# Altium integrated library TI Power Management Power Over Ethernet.IntLib: 76 symbols (part 4 of 9)
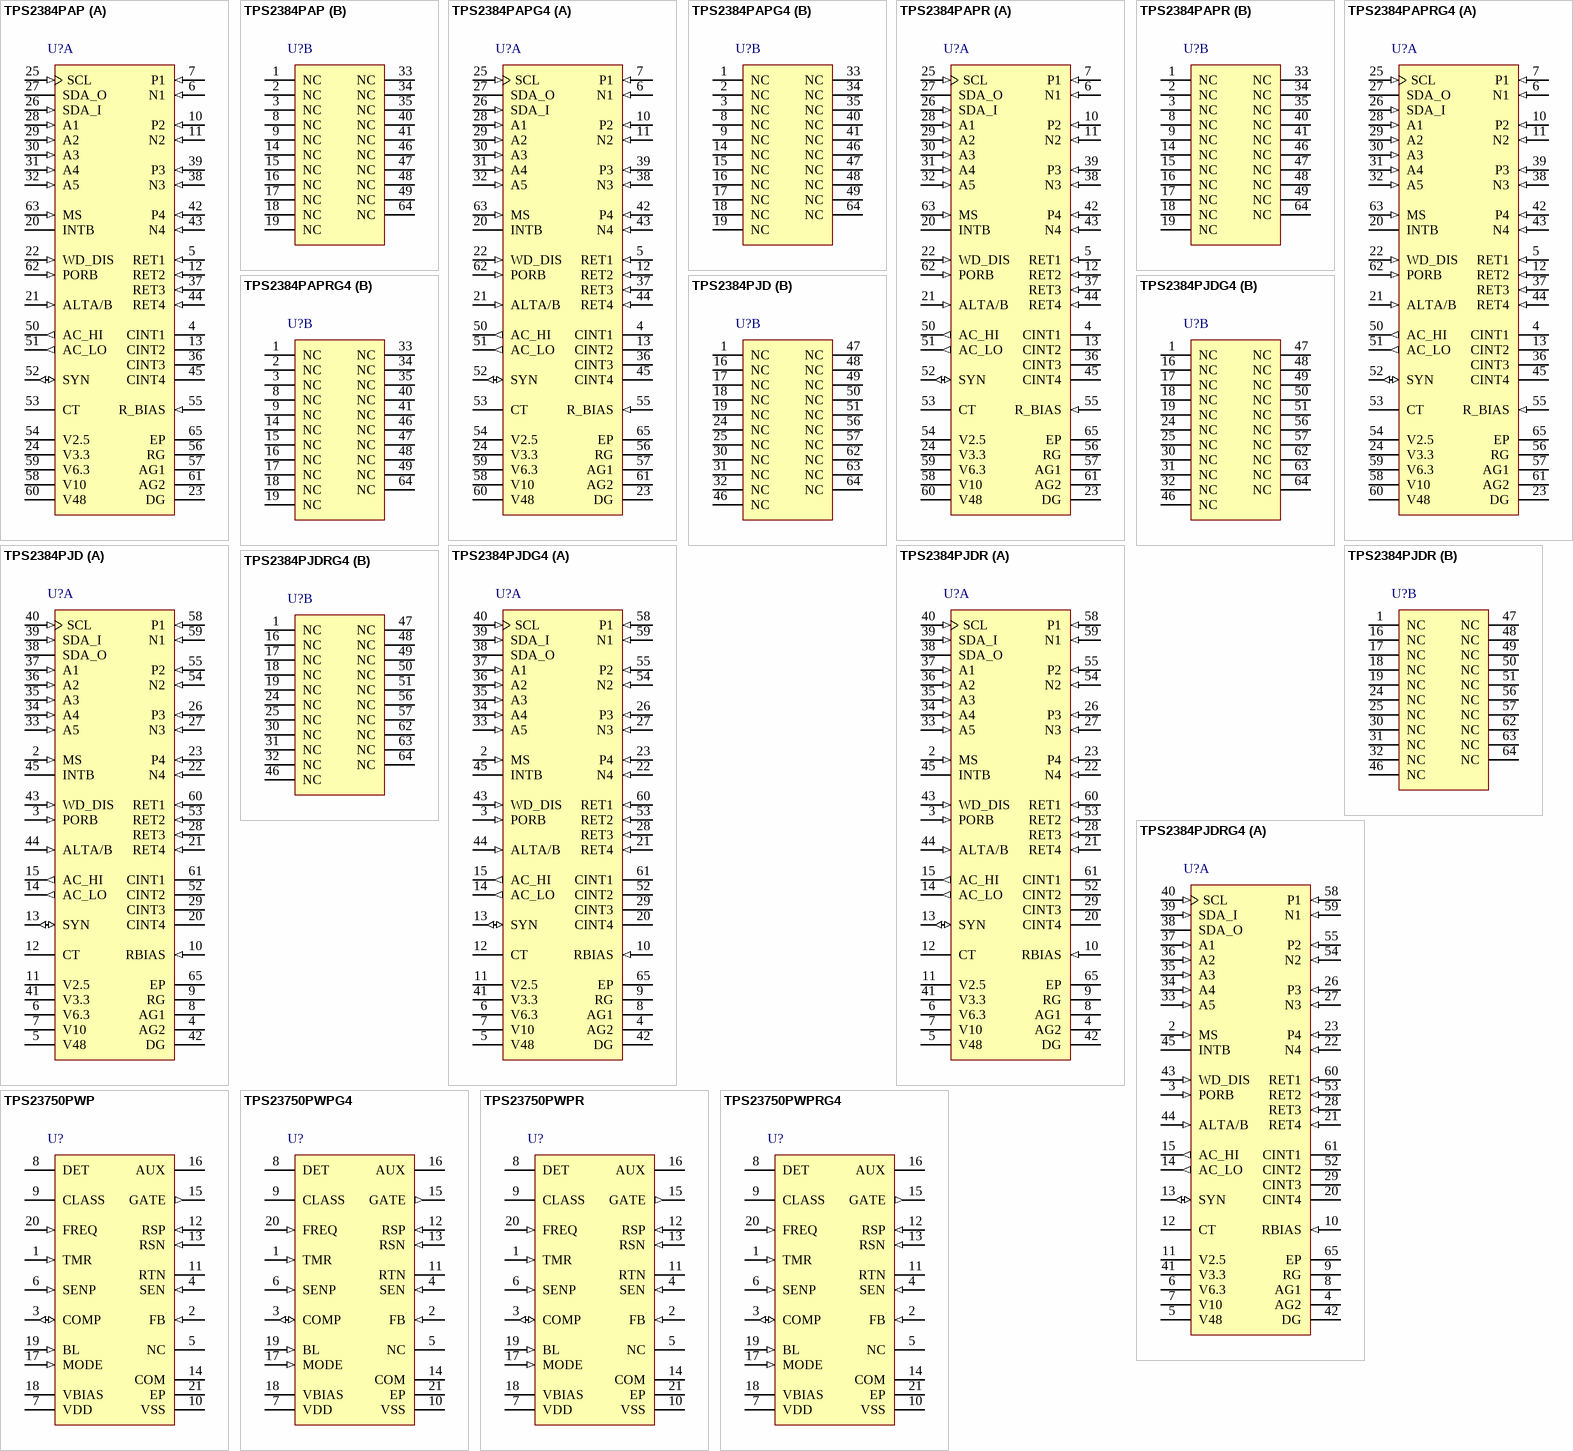
[diagram p6: symbols TPS2384PAP to TPS23750PWPRG4]

## TPS2384PJDG4
designator U?
Quad Ethernet Power Sourcing Equipment Power Manager, -40 to 125 degC, 64-pin QFP (PJD64), Green (RoHS & no Sb/Br); Manufacturer: Texas Instruments; PartNumber: TPS2384PJDG4; Integrated FET: TRUE; No. of Outputs: 4; DatasheetVersion: SLUS634D; PackageVersion: 4147703/E; PackageReference: PJD64-5920X5920TP; PackageDescription: 64-Pin Power Pad Plastic Quad Flatpack (Die Down), Body 10 x 10 mm, Pitch 0.50 mm; Supplier 1: Digi-Key; Supplier Part Number 1: TPS2384PJDG4-ND; Supplier 2: Mouser; Supplier Part Number 2: 595-TPS2384PJDG4; Eco-Plan: Green (RoHS & no Sb/Br); SubFamily: Power Sourcing Equipment; Mounting Technology: Surface Mount; Code_JEDEC: MS-026; ComponentLink1Description: Manufacturer URL; ComponentLink1URL: http://www.ti.com/; ComponentLink2Description: Datasheet; ComponentLink2URL: http://www.ti.com/general/docs/lit/getliterature.tsp?genericPartNumber=TPS2384&fileType=pdf; ComponentLink3Description: Package Specification; ComponentLink3URL: http://www.ti.com/litv/pdf/mpqf072d
footprint TI-PJD64-5920X5920TP_N (QFP, 64-Leads, Body 10x10mm, Pitch 0.5mm, Thermal Pad 5.92x5.92mm, IPC Medium Density)
footprint TI-PJD64-5920X5920TP_L (QFP, 64-Leads, Body 10x10mm, Pitch 0.5mm, Thermal Pad 5.92x5.92mm, IPC High Density)
footprint TI-PJD64-5920X5920TP_M (QFP, 64-Leads, Body 10x10mm, Pitch 0.5mm, Thermal Pad 5.92x5.92mm, IPC Low Density)
part A pins: 2 MS (in) "The MS pin selects either the auto mode (MS low) or the power management mode, PMM, (MS high). This pin can be held low for controller-less standalone applications. When MS is low and the POR timing cycle is complete the (See Datasheet)", 3 PORB (in) "This pin can be used to override the internal POR. When held low, the I2C interface, all the state machines, and registers are held in reset. When all internal and external supplies are within specification, and this pin is (See Datasheet)", 4 AG2 (power) "Analog ground 2. This is the analog ground which ties to the substrate and ESD structures of the device. It should be externally tied to the common copper 48-V return plane. AG1 and AG2 must be tied together directly for the (See Datasheet)", 5 V48 (power) "48-V input to the device. This supply can have a range of 44 to 57 V. This pin should be decoupled with a 0.1-uF capacitor from V48 to AG1 placed as close to the device as possible.", 6 V6.3 (power) "6.3-V analog supply. A 0.1-uF de-coupling capacitor should terminate as close to this pin and the AG1 pin as possible. Do not use for an external supply.", 7 V10 (power) "10-V analog supply. The 10-V reference is generated internally and connects to the main internal analog power bus. A 0.1-uF de-coupling capacitor should terminate as close to this node and the AG1 pin as possible. Do not use (See Datasheet)", 8 AG1 (power) "Analog ground 1. This is the analog ground of the V6.3, V10 and V48 power systems. It should be externally tied to the common copper 48-V return plane. This pin should carry the low side of three de-coupling capacitors tied (See Datasheet)", 9 RG (power) "Reference ground. This is a precision sense of the external ground plane. The integration capacitor (CINT) and the biasing resistor (RBIAS pin) should be tied to this ground. This ground should also be used to form a printed (See Datasheet)", 10 RBIAS (in) "Bias set resistor. This resistor sets all precision bias currents within the chip. This pin will regulate to 1.25V (V2.5/2) when a resistor is connected between RBIAS and RG. This voltage and RBIAS generate a current which (See Datasheet)", 11 V2.5 (power) "2.5-V reference supply. The V2.5 is generated internally and connects to the internal reference power bus. This pin should not be tied to any external supplies. A 0.1-uF de-coupling capacitor should terminate as close to (See Datasheet)", 12 CT "This is a dual-purpose pin. When tied to an external capacitor this pin sets the internal clock. When the CT pin is grounded the SYN pin turns from a output to an input (see SYN pin description). The timing capacitor and the (See Datasheet)", 13 SYN (io) "This is a dual purpose pin. When the CT pin is connected to a timing capacitor this output pin is a 0 V to 3.3V pulse of the internal clock which can be used to drive other TPS2384 SYN pins for elimination of a timing (See Datasheet)", 14 AC_LO (out) "Totem-pole output pin for AC Disconnect excitation.", 15 AC_HI (out) "Totem-pole output pin for AC Disconnect excitation.", 20 CINT4 "Integration capacitor This capacitor is used for the ramp A/D converter signal integration. Connect A 0.027-uF capacitor from this pin to RG. To minimize errors use a polycarbonate, poly-polypropylene, polystyrene or teflon (See Datasheet)", 21 RET4 (in) "48 V return pin.", 22 N4 (in) "Port negative. 48-V load return pin. The low side of the load is switched and protected by internal circuitry that limits the current.", 23 P4 (in) "Port Positive. 48-V load sense pin. Terminal voltage is monitored and controlled differentially with respect to each Port N pin. Optionally, if the application warrants, this high-side path can be protected with the use of a (See Datasheet)", 26 P3 (in) "Port Positive. 48-V load sense pin. Terminal voltage is monitored and controlled differentially with respect to each Port N pin. Optionally, if the application warrants, this high-side path can be protected with the use of a (See Datasheet)", 27 N3 (in) "Port negative. 48-V load return pin. The low side of the load is switched and protected by internal circuitry that limits the current.", 28 RET3 (in) "48 V return pin.", 29 CINT3 "Integration capacitor This capacitor is used for the ramp A/D converter signal integration. Connect A 0.027-uF capacitor from this pin to RG. To minimize errors use a polycarbonate, poly-polypropylene, polystyrene or teflon (See Datasheet)", 33 A5 (in) "Address 1 through 5 These are the I2C address select inputs. Select the appropriate binary address on these pins by connecting to chip ground for a logic low or tying to the V3.3 pin for a logic high. Each address line has (See Datasheet)", 34 A4 (in) "Address 1 through 5 These are the I2C address select inputs. Select the appropriate binary address on these pins by connecting to chip ground for a logic low or tying to the V3.3 pin for a logic high. Each address line has (See Datasheet)", 35 A3 (in) "Address 1 through 5 These are the I2C address select inputs. Select the appropriate binary address on these pins by connecting to chip ground for a logic low or tying to the V3.3 pin for a logic high. Each address line has (See Datasheet)", 36 A2 (in) "Address 1 through 5 These are the I2C address select inputs. Select the appropriate binary address on these pins by connecting to chip ground for a logic low or tying to the V3.3 pin for a logic high. Each address line has (See Datasheet)", 37 A1 (in) "Address 1 through 5 These are the I2C address select inputs. Select the appropriate binary address on these pins by connecting to chip ground for a logic low or tying to the V3.3 pin for a logic high. Each address line has (See Datasheet)", 38 SDA_O (oc) "Serial data open drain output for the I2C interface. When tied to the SDA_I pin, this connection becomes the standard bi-directional serial data line (SDA). This is a open drain output that can directly drive opto-coupler.", 39 SDA_I (in) "Serial data input pin for the I2C interface. When tied to the SDA_O pin, this connection becomes the standard bi-directional serial data line (SDA)", 40 SCL (in) "Serial clock input pin for the I2C interface.", 41 V3.3 (power) "3.3-V logic supply. The 3.3-V supply is generated internally and connects to the internal logic power bus. A 0.1-uìF de-coupling capacitor should terminate as close to this node and the DG pin as possible. This output can be (See Datasheet)", 42 DG (power) "Digital ground. This pin connects to the internal logic ground bus. It should be externally tied to the common copper 48-V return plane.", 43 WD_DIS (in) "The WD_DIS pin disables the watchdog timer function when connected to 3.3 V. The pin has internal 50-kohm resistor to digital ground. The watchdog timer monitors the I2C clock pin (SCL) and the internal oscillator activity (See Datasheet)", 44 ALTA/B (in) "When this input is set to logic low there is no back-off time after a discovery failure. When this pin set to a logic high there is a back-off time (approximately 2 seconds) before initiating another discovery cycle. This (See Datasheet)", 45 INTB (oc) "This is an open-drain output that goes low if a fault condition occurs on any of the 4 ports.", 52 CINT2 "Integration capacitor This capacitor is used for the ramp A/D converter signal integration. Connect A 0.027-uF capacitor from this pin to RG. To minimize errors use a polycarbonate, poly-polypropylene, polystyrene or teflon (See Datasheet)", 53 RET2 (in) "48 V return pin.", 54 N2 (in) "Port negative. 48-V load return pin. The low side of the load is switched and protected by internal circuitry that limits the current.", 55 P2 (in) "Port Positive. 48-V load sense pin. Terminal voltage is monitored and controlled differentially with respect to each Port N pin. Optionally, if the application warrants, this high-side path can be protected with the use of a (See Datasheet)", 58 P1 (in) "Port Positive. 48-V load sense pin. Terminal voltage is monitored and controlled differentially with respect to each Port N pin. Optionally, if the application warrants, this high-side path can be protected with the use of a (See Datasheet)", 59 N1 (in) "Port negative. 48-V load return pin. The low side of the load is switched and protected by internal circuitry that limits the current.", 60 RET1 (in) "48 V return pin.", 61 CINT1 "Integration capacitor This capacitor is used for the ramp A/D converter signal integration. Connect A 0.027-uF capacitor from this pin to RG. To minimize errors use a polycarbonate, poly-polypropylene, polystyrene or teflon (See Datasheet)", 65 EP
part B pins: 1 NC "No internal connection. Pins are floating.", 16 NC "No internal connection. Pins are floating.", 17 NC "No internal connection. Pins are floating.", 18 NC "No internal connection. Pins are floating.", 19 NC "No internal connection. Pins are floating.", 24 NC "No internal connection. Pins are floating.", 25 NC "No internal connection. Pins are floating.", 30 NC "No internal connection. Pins are floating.", 31 NC "No internal connection. Pins are floating.", 32 NC "No internal connection. Pins are floating.", 46 NC "No internal connection. Pins are floating.", 47 NC "No internal connection. Pins are floating.", 48 NC "No internal connection. Pins are floating.", 49 NC "No internal connection. Pins are floating.", 50 NC "No internal connection. Pins are floating.", 51 NC "No internal connection. Pins are floating.", 56 NC "No internal connection. Pins are floating.", 57 NC "No internal connection. Pins are floating.", 62 NC "No internal connection. Pins are floating.", 63 NC "No internal connection. Pins are floating.", 64 NC "No internal connection. Pins are floating."

## TPS2384PJDR
designator U?
Quad Ethernet Power Sourcing Equipment Power Manager, -40 to 125 degC, 64-pin QFP (PJD64), Green (RoHS & no Sb/Br); Manufacturer: Texas Instruments; PartNumber: TPS2384PJDR; Integrated FET: TRUE; No. of Outputs: 4; DatasheetVersion: SLUS634D; PackageVersion: 4147703/E; PackageReference: PJD64-5920X5920TP; PackageDescription: 64-Pin Power Pad Plastic Quad Flatpack (Die Down), Body 10 x 10 mm, Pitch 0.50 mm; Supplier 1: Digi-Key; Supplier Part Number 1: TPS2384PJDR-ND; Supplier 2: Newark; Supplier Part Number 2: 80K3397; Supplier 3: Mouser; Supplier Part Number 3: 595-TPS2384PJDR; Eco-Plan: Green (RoHS & no Sb/Br); SubFamily: Power Sourcing Equipment; Mounting Technology: Surface Mount; Code_JEDEC: MS-026; ComponentLink1Description: Manufacturer URL; ComponentLink1URL: http://www.ti.com/; ComponentLink2Description: Datasheet; ComponentLink2URL: http://www.ti.com/general/docs/lit/getliterature.tsp?genericPartNumber=TPS2384&fileType=pdf; ComponentLink3Description: Package Specification; ComponentLink3URL: http://www.ti.com/litv/pdf/mpqf072d
footprint TI-PJD64-5920X5920TP_N (QFP, 64-Leads, Body 10x10mm, Pitch 0.5mm, Thermal Pad 5.92x5.92mm, IPC Medium Density)
footprint TI-PJD64-5920X5920TP_L (QFP, 64-Leads, Body 10x10mm, Pitch 0.5mm, Thermal Pad 5.92x5.92mm, IPC High Density)
footprint TI-PJD64-5920X5920TP_M (QFP, 64-Leads, Body 10x10mm, Pitch 0.5mm, Thermal Pad 5.92x5.92mm, IPC Low Density)
part A pins: 2 MS (in) "The MS pin selects either the auto mode (MS low) or the power management mode, PMM, (MS high). This pin can be held low for controller-less standalone applications. When MS is low and the POR timing cycle is complete the (See Datasheet)", 3 PORB (in) "This pin can be used to override the internal POR. When held low, the I2C interface, all the state machines, and registers are held in reset. When all internal and external supplies are within specification, and this pin is (See Datasheet)", 4 AG2 (power) "Analog ground 2. This is the analog ground which ties to the substrate and ESD structures of the device. It should be externally tied to the common copper 48-V return plane. AG1 and AG2 must be tied together directly for the (See Datasheet)", 5 V48 (power) "48-V input to the device. This supply can have a range of 44 to 57 V. This pin should be decoupled with a 0.1-uF capacitor from V48 to AG1 placed as close to the device as possible.", 6 V6.3 (power) "6.3-V analog supply. A 0.1-uF de-coupling capacitor should terminate as close to this pin and the AG1 pin as possible. Do not use for an external supply.", 7 V10 (power) "10-V analog supply. The 10-V reference is generated internally and connects to the main internal analog power bus. A 0.1-uF de-coupling capacitor should terminate as close to this node and the AG1 pin as possible. Do not use (See Datasheet)", 8 AG1 (power) "Analog ground 1. This is the analog ground of the V6.3, V10 and V48 power systems. It should be externally tied to the common copper 48-V return plane. This pin should carry the low side of three de-coupling capacitors tied (See Datasheet)", 9 RG (power) "Reference ground. This is a precision sense of the external ground plane. The integration capacitor (CINT) and the biasing resistor (RBIAS pin) should be tied to this ground. This ground should also be used to form a printed (See Datasheet)", 10 RBIAS (in) "Bias set resistor. This resistor sets all precision bias currents within the chip. This pin will regulate to 1.25V (V2.5/2) when a resistor is connected between RBIAS and RG. This voltage and RBIAS generate a current which (See Datasheet)", 11 V2.5 (power) "2.5-V reference supply. The V2.5 is generated internally and connects to the internal reference power bus. This pin should not be tied to any external supplies. A 0.1-uF de-coupling capacitor should terminate as close to (See Datasheet)", 12 CT "This is a dual-purpose pin. When tied to an external capacitor this pin sets the internal clock. When the CT pin is grounded the SYN pin turns from a output to an input (see SYN pin description). The timing capacitor and the (See Datasheet)", 13 SYN (io) "This is a dual purpose pin. When the CT pin is connected to a timing capacitor this output pin is a 0 V to 3.3V pulse of the internal clock which can be used to drive other TPS2384 SYN pins for elimination of a timing (See Datasheet)", 14 AC_LO (out) "Totem-pole output pin for AC Disconnect excitation.", 15 AC_HI (out) "Totem-pole output pin for AC Disconnect excitation.", 20 CINT4 "Integration capacitor This capacitor is used for the ramp A/D converter signal integration. Connect A 0.027-uF capacitor from this pin to RG. To minimize errors use a polycarbonate, poly-polypropylene, polystyrene or teflon (See Datasheet)", 21 RET4 (in) "48 V return pin.", 22 N4 (in) "Port negative. 48-V load return pin. The low side of the load is switched and protected by internal circuitry that limits the current.", 23 P4 (in) "Port Positive. 48-V load sense pin. Terminal voltage is monitored and controlled differentially with respect to each Port N pin. Optionally, if the application warrants, this high-side path can be protected with the use of a (See Datasheet)", 26 P3 (in) "Port Positive. 48-V load sense pin. Terminal voltage is monitored and controlled differentially with respect to each Port N pin. Optionally, if the application warrants, this high-side path can be protected with the use of a (See Datasheet)", 27 N3 (in) "Port negative. 48-V load return pin. The low side of the load is switched and protected by internal circuitry that limits the current.", 28 RET3 (in) "48 V return pin.", 29 CINT3 "Integration capacitor This capacitor is used for the ramp A/D converter signal integration. Connect A 0.027-uF capacitor from this pin to RG. To minimize errors use a polycarbonate, poly-polypropylene, polystyrene or teflon (See Datasheet)", 33 A5 (in) "Address 1 through 5 These are the I2C address select inputs. Select the appropriate binary address on these pins by connecting to chip ground for a logic low or tying to the V3.3 pin for a logic high. Each address line has (See Datasheet)", 34 A4 (in) "Address 1 through 5 These are the I2C address select inputs. Select the appropriate binary address on these pins by connecting to chip ground for a logic low or tying to the V3.3 pin for a logic high. Each address line has (See Datasheet)", 35 A3 (in) "Address 1 through 5 These are the I2C address select inputs. Select the appropriate binary address on these pins by connecting to chip ground for a logic low or tying to the V3.3 pin for a logic high. Each address line has (See Datasheet)", 36 A2 (in) "Address 1 through 5 These are the I2C address select inputs. Select the appropriate binary address on these pins by connecting to chip ground for a logic low or tying to the V3.3 pin for a logic high. Each address line has (See Datasheet)", 37 A1 (in) "Address 1 through 5 These are the I2C address select inputs. Select the appropriate binary address on these pins by connecting to chip ground for a logic low or tying to the V3.3 pin for a logic high. Each address line has (See Datasheet)", 38 SDA_O (oc) "Serial data open drain output for the I2C interface. When tied to the SDA_I pin, this connection becomes the standard bi-directional serial data line (SDA). This is a open drain output that can directly drive opto-coupler.", 39 SDA_I (in) "Serial data input pin for the I2C interface. When tied to the SDA_O pin, this connection becomes the standard bi-directional serial data line (SDA)", 40 SCL (in) "Serial clock input pin for the I2C interface.", 41 V3.3 (power) "3.3-V logic supply. The 3.3-V supply is generated internally and connects to the internal logic power bus. A 0.1-uìF de-coupling capacitor should terminate as close to this node and the DG pin as possible. This output can be (See Datasheet)", 42 DG (power) "Digital ground. This pin connects to the internal logic ground bus. It should be externally tied to the common copper 48-V return plane.", 43 WD_DIS (in) "The WD_DIS pin disables the watchdog timer function when connected to 3.3 V. The pin has internal 50-kohm resistor to digital ground. The watchdog timer monitors the I2C clock pin (SCL) and the internal oscillator activity (See Datasheet)", 44 ALTA/B (in) "When this input is set to logic low there is no back-off time after a discovery failure. When this pin set to a logic high there is a back-off time (approximately 2 seconds) before initiating another discovery cycle. This (See Datasheet)", 45 INTB (oc) "This is an open-drain output that goes low if a fault condition occurs on any of the 4 ports.", 52 CINT2 "Integration capacitor This capacitor is used for the ramp A/D converter signal integration. Connect A 0.027-uF capacitor from this pin to RG. To minimize errors use a polycarbonate, poly-polypropylene, polystyrene or teflon (See Datasheet)", 53 RET2 (in) "48 V return pin.", 54 N2 (in) "Port negative. 48-V load return pin. The low side of the load is switched and protected by internal circuitry that limits the current.", 55 P2 (in) "Port Positive. 48-V load sense pin. Terminal voltage is monitored and controlled differentially with respect to each Port N pin. Optionally, if the application warrants, this high-side path can be protected with the use of a (See Datasheet)", 58 P1 (in) "Port Positive. 48-V load sense pin. Terminal voltage is monitored and controlled differentially with respect to each Port N pin. Optionally, if the application warrants, this high-side path can be protected with the use of a (See Datasheet)", 59 N1 (in) "Port negative. 48-V load return pin. The low side of the load is switched and protected by internal circuitry that limits the current.", 60 RET1 (in) "48 V return pin.", 61 CINT1 "Integration capacitor This capacitor is used for the ramp A/D converter signal integration. Connect A 0.027-uF capacitor from this pin to RG. To minimize errors use a polycarbonate, poly-polypropylene, polystyrene or teflon (See Datasheet)", 65 EP
part B pins: 1 NC "No internal connection. Pins are floating.", 16 NC "No internal connection. Pins are floating.", 17 NC "No internal connection. Pins are floating.", 18 NC "No internal connection. Pins are floating.", 19 NC "No internal connection. Pins are floating.", 24 NC "No internal connection. Pins are floating.", 25 NC "No internal connection. Pins are floating.", 30 NC "No internal connection. Pins are floating.", 31 NC "No internal connection. Pins are floating.", 32 NC "No internal connection. Pins are floating.", 46 NC "No internal connection. Pins are floating.", 47 NC "No internal connection. Pins are floating.", 48 NC "No internal connection. Pins are floating.", 49 NC "No internal connection. Pins are floating.", 50 NC "No internal connection. Pins are floating.", 51 NC "No internal connection. Pins are floating.", 56 NC "No internal connection. Pins are floating.", 57 NC "No internal connection. Pins are floating.", 62 NC "No internal connection. Pins are floating.", 63 NC "No internal connection. Pins are floating.", 64 NC "No internal connection. Pins are floating."

## TPS2384PJDRG4
designator U?
Quad Ethernet Power Sourcing Equipment Power Manager, -40 to 125 degC, 64-pin QFP (PJD64), Green (RoHS & no Sb/Br); Manufacturer: Texas Instruments; PartNumber: TPS2384PJDRG4; Integrated FET: TRUE; No. of Outputs: 4; DatasheetVersion: SLUS634D; PackageVersion: 4147703/E; PackageReference: PJD64-5920X5920TP; PackageDescription: 64-Pin Power Pad Plastic Quad Flatpack (Die Down), Body 10 x 10 mm, Pitch 0.50 mm; Supplier 1: Digi-Key; Supplier Part Number 1: TPS2384PJDRG4-ND; Supplier 2: Mouser; Supplier Part Number 2: 595-TPS2384PJDRG4; Eco-Plan: Green (RoHS & no Sb/Br); SubFamily: Power Sourcing Equipment; Mounting Technology: Surface Mount; Code_JEDEC: MS-026; ComponentLink1Description: Manufacturer URL; ComponentLink1URL: http://www.ti.com/; ComponentLink2Description: Datasheet; ComponentLink2URL: http://www.ti.com/general/docs/lit/getliterature.tsp?genericPartNumber=TPS2384&fileType=pdf; ComponentLink3Description: Package Specification; ComponentLink3URL: http://www.ti.com/litv/pdf/mpqf072d
footprint TI-PJD64-5920X5920TP_N (QFP, 64-Leads, Body 10x10mm, Pitch 0.5mm, Thermal Pad 5.92x5.92mm, IPC Medium Density)
footprint TI-PJD64-5920X5920TP_L (QFP, 64-Leads, Body 10x10mm, Pitch 0.5mm, Thermal Pad 5.92x5.92mm, IPC High Density)
footprint TI-PJD64-5920X5920TP_M (QFP, 64-Leads, Body 10x10mm, Pitch 0.5mm, Thermal Pad 5.92x5.92mm, IPC Low Density)
part A pins: 2 MS (in) "The MS pin selects either the auto mode (MS low) or the power management mode, PMM, (MS high). This pin can be held low for controller-less standalone applications. When MS is low and the POR timing cycle is complete the (See Datasheet)", 3 PORB (in) "This pin can be used to override the internal POR. When held low, the I2C interface, all the state machines, and registers are held in reset. When all internal and external supplies are within specification, and this pin is (See Datasheet)", 4 AG2 (power) "Analog ground 2. This is the analog ground which ties to the substrate and ESD structures of the device. It should be externally tied to the common copper 48-V return plane. AG1 and AG2 must be tied together directly for the (See Datasheet)", 5 V48 (power) "48-V input to the device. This supply can have a range of 44 to 57 V. This pin should be decoupled with a 0.1-uF capacitor from V48 to AG1 placed as close to the device as possible.", 6 V6.3 (power) "6.3-V analog supply. A 0.1-uF de-coupling capacitor should terminate as close to this pin and the AG1 pin as possible. Do not use for an external supply.", 7 V10 (power) "10-V analog supply. The 10-V reference is generated internally and connects to the main internal analog power bus. A 0.1-uF de-coupling capacitor should terminate as close to this node and the AG1 pin as possible. Do not use (See Datasheet)", 8 AG1 (power) "Analog ground 1. This is the analog ground of the V6.3, V10 and V48 power systems. It should be externally tied to the common copper 48-V return plane. This pin should carry the low side of three de-coupling capacitors tied (See Datasheet)", 9 RG (power) "Reference ground. This is a precision sense of the external ground plane. The integration capacitor (CINT) and the biasing resistor (RBIAS pin) should be tied to this ground. This ground should also be used to form a printed (See Datasheet)", 10 RBIAS (in) "Bias set resistor. This resistor sets all precision bias currents within the chip. This pin will regulate to 1.25V (V2.5/2) when a resistor is connected between RBIAS and RG. This voltage and RBIAS generate a current which (See Datasheet)", 11 V2.5 (power) "2.5-V reference supply. The V2.5 is generated internally and connects to the internal reference power bus. This pin should not be tied to any external supplies. A 0.1-uF de-coupling capacitor should terminate as close to (See Datasheet)", 12 CT "This is a dual-purpose pin. When tied to an external capacitor this pin sets the internal clock. When the CT pin is grounded the SYN pin turns from a output to an input (see SYN pin description). The timing capacitor and the (See Datasheet)", 13 SYN (io) "This is a dual purpose pin. When the CT pin is connected to a timing capacitor this output pin is a 0 V to 3.3V pulse of the internal clock which can be used to drive other TPS2384 SYN pins for elimination of a timing (See Datasheet)", 14 AC_LO (out) "Totem-pole output pin for AC Disconnect excitation.", 15 AC_HI (out) "Totem-pole output pin for AC Disconnect excitation.", 20 CINT4 "Integration capacitor This capacitor is used for the ramp A/D converter signal integration. Connect A 0.027-uF capacitor from this pin to RG. To minimize errors use a polycarbonate, poly-polypropylene, polystyrene or teflon (See Datasheet)", 21 RET4 (in) "48 V return pin.", 22 N4 (in) "Port negative. 48-V load return pin. The low side of the load is switched and protected by internal circuitry that limits the current.", 23 P4 (in) "Port Positive. 48-V load sense pin. Terminal voltage is monitored and controlled differentially with respect to each Port N pin. Optionally, if the application warrants, this high-side path can be protected with the use of a (See Datasheet)", 26 P3 (in) "Port Positive. 48-V load sense pin. Terminal voltage is monitored and controlled differentially with respect to each Port N pin. Optionally, if the application warrants, this high-side path can be protected with the use of a (See Datasheet)", 27 N3 (in) "Port negative. 48-V load return pin. The low side of the load is switched and protected by internal circuitry that limits the current.", 28 RET3 (in) "48 V return pin.", 29 CINT3 "Integration capacitor This capacitor is used for the ramp A/D converter signal integration. Connect A 0.027-uF capacitor from this pin to RG. To minimize errors use a polycarbonate, poly-polypropylene, polystyrene or teflon (See Datasheet)", 33 A5 (in) "Address 1 through 5 These are the I2C address select inputs. Select the appropriate binary address on these pins by connecting to chip ground for a logic low or tying to the V3.3 pin for a logic high. Each address line has (See Datasheet)", 34 A4 (in) "Address 1 through 5 These are the I2C address select inputs. Select the appropriate binary address on these pins by connecting to chip ground for a logic low or tying to the V3.3 pin for a logic high. Each address line has (See Datasheet)", 35 A3 (in) "Address 1 through 5 These are the I2C address select inputs. Select the appropriate binary address on these pins by connecting to chip ground for a logic low or tying to the V3.3 pin for a logic high. Each address line has (See Datasheet)", 36 A2 (in) "Address 1 through 5 These are the I2C address select inputs. Select the appropriate binary address on these pins by connecting to chip ground for a logic low or tying to the V3.3 pin for a logic high. Each address line has (See Datasheet)", 37 A1 (in) "Address 1 through 5 These are the I2C address select inputs. Select the appropriate binary address on these pins by connecting to chip ground for a logic low or tying to the V3.3 pin for a logic high. Each address line has (See Datasheet)", 38 SDA_O (oc) "Serial data open drain output for the I2C interface. When tied to the SDA_I pin, this connection becomes the standard bi-directional serial data line (SDA). This is a open drain output that can directly drive opto-coupler.", 39 SDA_I (in) "Serial data input pin for the I2C interface. When tied to the SDA_O pin, this connection becomes the standard bi-directional serial data line (SDA)", 40 SCL (in) "Serial clock input pin for the I2C interface.", 41 V3.3 (power) "3.3-V logic supply. The 3.3-V supply is generated internally and connects to the internal logic power bus. A 0.1-uìF de-coupling capacitor should terminate as close to this node and the DG pin as possible. This output can be (See Datasheet)", 42 DG (power) "Digital ground. This pin connects to the internal logic ground bus. It should be externally tied to the common copper 48-V return plane.", 43 WD_DIS (in) "The WD_DIS pin disables the watchdog timer function when connected to 3.3 V. The pin has internal 50-kohm resistor to digital ground. The watchdog timer monitors the I2C clock pin (SCL) and the internal oscillator activity (See Datasheet)", 44 ALTA/B (in) "When this input is set to logic low there is no back-off time after a discovery failure. When this pin set to a logic high there is a back-off time (approximately 2 seconds) before initiating another discovery cycle. This (See Datasheet)", 45 INTB (oc) "This is an open-drain output that goes low if a fault condition occurs on any of the 4 ports.", 52 CINT2 "Integration capacitor This capacitor is used for the ramp A/D converter signal integration. Connect A 0.027-uF capacitor from this pin to RG. To minimize errors use a polycarbonate, poly-polypropylene, polystyrene or teflon (See Datasheet)", 53 RET2 (in) "48 V return pin.", 54 N2 (in) "Port negative. 48-V load return pin. The low side of the load is switched and protected by internal circuitry that limits the current.", 55 P2 (in) "Port Positive. 48-V load sense pin. Terminal voltage is monitored and controlled differentially with respect to each Port N pin. Optionally, if the application warrants, this high-side path can be protected with the use of a (See Datasheet)", 58 P1 (in) "Port Positive. 48-V load sense pin. Terminal voltage is monitored and controlled differentially with respect to each Port N pin. Optionally, if the application warrants, this high-side path can be protected with the use of a (See Datasheet)", 59 N1 (in) "Port negative. 48-V load return pin. The low side of the load is switched and protected by internal circuitry that limits the current.", 60 RET1 (in) "48 V return pin.", 61 CINT1 "Integration capacitor This capacitor is used for the ramp A/D converter signal integration. Connect A 0.027-uF capacitor from this pin to RG. To minimize errors use a polycarbonate, poly-polypropylene, polystyrene or teflon (See Datasheet)", 65 EP
part B pins: 1 NC "No internal connection. Pins are floating.", 16 NC "No internal connection. Pins are floating.", 17 NC "No internal connection. Pins are floating.", 18 NC "No internal connection. Pins are floating.", 19 NC "No internal connection. Pins are floating.", 24 NC "No internal connection. Pins are floating.", 25 NC "No internal connection. Pins are floating.", 30 NC "No internal connection. Pins are floating.", 31 NC "No internal connection. Pins are floating.", 32 NC "No internal connection. Pins are floating.", 46 NC "No internal connection. Pins are floating.", 47 NC "No internal connection. Pins are floating.", 48 NC "No internal connection. Pins are floating.", 49 NC "No internal connection. Pins are floating.", 50 NC "No internal connection. Pins are floating.", 51 NC "No internal connection. Pins are floating.", 56 NC "No internal connection. Pins are floating.", 57 NC "No internal connection. Pins are floating.", 62 NC "No internal connection. Pins are floating.", 63 NC "No internal connection. Pins are floating.", 64 NC "No internal connection. Pins are floating."

## TPS23750PWP
designator U?
IEEE 802.3af PD Controller with Integrated DC / DC, -40 to 85 degC, 20-pin SOP (PW20), Green (RoHS & no Sb/Br); Manufacturer: Texas Instruments; PartNumber: TPS23750PWP; Auxiliary Power Rails Supported: 24V-57V; Auxiliary/Local Power Support: External Circuit; Duty Cycle(%): 50; Error Amplifier: Yes; Fault Response: Auto Retry; PD Power Level: 13W; PoE Current Limit(Min)(mA): 405; PoE I/F & DC DC Control: TRUE; PoE Inrush Limit(Typ)(mA): 140; PoE Standards Supported: 802.3at type1; rDS(on) per FET(Typ)(mOhms): 600; SubFamily: Powered Device; Switching Frequency: Programmable; DatasheetVersion: SLVS590B; PackageVersion: 4073225-4/1; PackageReference: PWP20-3610X2009TP; PackageDescription: 20-Pin PowerPAD Plastic Small Outline, Body 6.5 x 4.4 mm,0.65 mm Pitch; Supplier 1: Digi-Key; Supplier Part Number 1: 296-26921-5-ND; Supplier 2: Farnell; Supplier Part Number 2: 1576971; Supplier 3: Newark; Supplier Part Number 3: 57K1316; Supplier 4: Mouser; Supplier Part Number 4: 595-TPS23750PWP; Eco-Plan: Green (RoHS & no Sb/Br); UVLO: 802.3af; Mounting Technology: Surface Mount; Code_JEDEC: MO-153; ComponentLink1Description: Manufacturer URL; ComponentLink1URL: http://www.ti.com/; ComponentLink2Description: Datasheet; ComponentLink2URL: http://www.ti.com/general/docs/lit/getliterature.tsp?genericPartNumber=TPS23750&fileType=pdf; ComponentLink3Description: Package Specification; ComponentLink3URL: http://www.ti.com/litv/pdf/mhts001g
footprint TI-PWP20-3610X2009TP_N (SOP, 20-Leads, Body 6.5x4.4mm, Pitch 0.65mm, Thermal Pad 3.605x2.005mm, IPC Medium Density)
footprint TI-PWP20-3610X2009TP_L (SOP, 20-Leads, Body 6.5x4.4mm, Pitch 0.65mm, Thermal Pad 3.605x2.005mm, IPC High Density)
footprint TI-PWP20-3610X2009TP_M (SOP, 20-Leads, Body 6.5x4.4mm, Pitch 0.65mm, Thermal Pad 3.605x2.005mm, IPC Low Density)
pins: 1 TMR (in) "Multifunction pin, serves as a converter soft start and a hiccup timer. A capacitor to RTN determines the softstart and hiccup timing.", 2 FB (in) "Converter error amplifier inverting input. Tie to RTN when not used.", 3 COMP (io) "Converter error amplifier output and PWM block input. COMP is used for loop compensation or PWM control with an external error amplifier and opto-isolator.", 4 SEN (in) "Voltage-level translator's sense input and enable; connect to RTN to disable. SEN is regulated to 1.5 V below SENP by the control loop when the translator is used. Typically used in a low-side switch buck converter.", 5 NC "No connect. There are no internal connections.", 6 SENP (in) "Voltage-level translator's positive reference voltage (sense positive) used in conjunction with SEN. Tie to the regulated voltage positive rail when the translator is used, and VDD otherwise.", 7 VDD (power) "Positive supply input.", 8 DET "PoE detection pin; a 24.9 k ohm resistor to VDD establishes a valid signature. It is pulled to VSS during detection.", 9 CLASS "Classification pin for PoE. A resistor to VSS sets the PoE device class. This pin is driven to 10 V during classification.", 10 VSS (power) "Negative supply input from the PoE feed (after required ORing bridges).", 11 RTN "The switched PoE negative output. RTN is the converter’s negative input rail. COM and RSN should be tied to RTN.", 12 RSP (in) "Connect to the converter switching MOSFET current-sense resistor (current Sense Resistor Positive end).", 13 RSN (in) "Converter switching MOSFET current-sense reference (current Sense Resistor Negative end) and quiet analog return (ground). Connect to RTN.", 14 COM (power) "Converter MOSFET gate driver circuit return. Connect to RTN.", 15 GATE (out) "Converter switching MOSFET gate drive.", 16 AUX (power) "Converter gate driver supply; outputs 10 V and can accept inputs up to 16 V. Connect a bypass capacitor to COM.", 17 MODE (in) "Connect to VBIAS to disable the error amplifier, otherwise to RTN.", 18 VBIAS (power) "Converter internal 5 V bias supply output, also used to bias external optocoupler. A bypass capacitor to RTN is required.", 19 BL (in) "Converter current sense blanking selector. Leave floating for minimum blanking, tie BL to RTN for a short period, and to VBIAS for a long period.", 20 FREQ (in) "Connect a resistor to RTN to program the switching frequency.", 21 EP (power) "Internally connected to VSS; used to heatsink the part to the circuit board traces. Must be connected to the VSS pin."

## TPS23750PWPG4
designator U?
IEEE 802.3af PD Controller with Integrated DC / DC, -40 to 85 degC, 20-pin SOP (PW20), Green (RoHS & no Sb/Br); Manufacturer: Texas Instruments; PartNumber: TPS23750PWPG4; Auxiliary Power Rails Supported: 24V-57V; Auxiliary/Local Power Support: External Circuit; Duty Cycle(%): 50; Error Amplifier: Yes; Fault Response: Auto Retry; PD Power Level: 13W; PoE Current Limit(Min)(mA): 405; PoE I/F & DC DC Control: TRUE; PoE Inrush Limit(Typ)(mA): 140; PoE Standards Supported: 802.3at type1; rDS(on) per FET(Typ)(mOhms): 600; SubFamily: Powered Device; Switching Frequency: Programmable; DatasheetVersion: SLVS590B; PackageVersion: 4073225-4/1; PackageReference: PWP20-3610X2009TP; PackageDescription: 20-Pin PowerPAD Plastic Small Outline, Body 6.5 x 4.4 mm,0.65 mm Pitch; Supplier 1: Digi-Key; Supplier Part Number 1: TPS23750PWPG4-ND; Supplier 2: Mouser; Supplier Part Number 2: 595-TPS23750PWPG4; Eco-Plan: Green (RoHS & no Sb/Br); UVLO: 802.3af; Mounting Technology: Surface Mount; Code_JEDEC: MO-153; ComponentLink1Description: Manufacturer URL; ComponentLink1URL: http://www.ti.com/; ComponentLink2Description: Datasheet; ComponentLink2URL: http://www.ti.com/general/docs/lit/getliterature.tsp?genericPartNumber=TPS23750&fileType=pdf; ComponentLink3Description: Package Specification; ComponentLink3URL: http://www.ti.com/litv/pdf/mhts001g
footprint TI-PWP20-3610X2009TP_N (SOP, 20-Leads, Body 6.5x4.4mm, Pitch 0.65mm, Thermal Pad 3.605x2.005mm, IPC Medium Density)
footprint TI-PWP20-3610X2009TP_L (SOP, 20-Leads, Body 6.5x4.4mm, Pitch 0.65mm, Thermal Pad 3.605x2.005mm, IPC High Density)
footprint TI-PWP20-3610X2009TP_M (SOP, 20-Leads, Body 6.5x4.4mm, Pitch 0.65mm, Thermal Pad 3.605x2.005mm, IPC Low Density)
pins: 1 TMR (in) "Multifunction pin, serves as a converter soft start and a hiccup timer. A capacitor to RTN determines the softstart and hiccup timing.", 2 FB (in) "Converter error amplifier inverting input. Tie to RTN when not used.", 3 COMP (io) "Converter error amplifier output and PWM block input. COMP is used for loop compensation or PWM control with an external error amplifier and opto-isolator.", 4 SEN (in) "Voltage-level translator's sense input and enable; connect to RTN to disable. SEN is regulated to 1.5 V below SENP by the control loop when the translator is used. Typically used in a low-side switch buck converter.", 5 NC "No connect. There are no internal connections.", 6 SENP (in) "Voltage-level translator's positive reference voltage (sense positive) used in conjunction with SEN. Tie to the regulated voltage positive rail when the translator is used, and VDD otherwise.", 7 VDD (power) "Positive supply input.", 8 DET "PoE detection pin; a 24.9 k ohm resistor to VDD establishes a valid signature. It is pulled to VSS during detection.", 9 CLASS "Classification pin for PoE. A resistor to VSS sets the PoE device class. This pin is driven to 10 V during classification.", 10 VSS (power) "Negative supply input from the PoE feed (after required ORing bridges).", 11 RTN "The switched PoE negative output. RTN is the converter’s negative input rail. COM and RSN should be tied to RTN.", 12 RSP (in) "Connect to the converter switching MOSFET current-sense resistor (current Sense Resistor Positive end).", 13 RSN (in) "Converter switching MOSFET current-sense reference (current Sense Resistor Negative end) and quiet analog return (ground). Connect to RTN.", 14 COM (power) "Converter MOSFET gate driver circuit return. Connect to RTN.", 15 GATE (out) "Converter switching MOSFET gate drive.", 16 AUX (power) "Converter gate driver supply; outputs 10 V and can accept inputs up to 16 V. Connect a bypass capacitor to COM.", 17 MODE (in) "Connect to VBIAS to disable the error amplifier, otherwise to RTN.", 18 VBIAS (power) "Converter internal 5 V bias supply output, also used to bias external optocoupler. A bypass capacitor to RTN is required.", 19 BL (in) "Converter current sense blanking selector. Leave floating for minimum blanking, tie BL to RTN for a short period, and to VBIAS for a long period.", 20 FREQ (in) "Connect a resistor to RTN to program the switching frequency.", 21 EP (power) "Internally connected to VSS; used to heatsink the part to the circuit board traces. Must be connected to the VSS pin."

## TPS23750PWPR
designator U?
IEEE 802.3af PD Controller with Integrated DC / DC, -40 to 85 degC, 20-pin SOP (PW20), Green (RoHS & no Sb/Br); Manufacturer: Texas Instruments; PartNumber: TPS23750PWPR; Auxiliary Power Rails Supported: 24V-57V; Auxiliary/Local Power Support: External Circuit; Duty Cycle(%): 50; Error Amplifier: Yes; Fault Response: Auto Retry; PD Power Level: 13W; PoE Current Limit(Min)(mA): 405; PoE I/F & DC DC Control: TRUE; PoE Inrush Limit(Typ)(mA): 140; PoE Standards Supported: 802.3at type1; rDS(on) per FET(Typ)(mOhms): 600; SubFamily: Powered Device; Switching Frequency: Programmable; DatasheetVersion: SLVS590B; PackageVersion: 4073225-4/1; PackageReference: PWP20-3610X2009TP; PackageDescription: 20-Pin PowerPAD Plastic Small Outline, Body 6.5 x 4.4 mm,0.65 mm Pitch; Supplier 1: Digi-Key; Supplier Part Number 1: 296-18669-2-ND; Supplier 2: Digi-Key; Supplier Part Number 2: 296-18669-1-ND; Supplier 3: Digi-Key; Supplier Part Number 3: 296-18669-6-ND; Supplier 4: Newark; Supplier Part Number 4: 57K1318; Supplier 5: Mouser; Supplier Part Number 5: 595-TPS23750PWPR; Eco-Plan: Green (RoHS & no Sb/Br); UVLO: 802.3af; Mounting Technology: Surface Mount; Code_JEDEC: MO-153; ComponentLink1Description: Manufacturer URL; ComponentLink1URL: http://www.ti.com/; ComponentLink2Description: Datasheet; ComponentLink2URL: http://www.ti.com/general/docs/lit/getliterature.tsp?genericPartNumber=TPS23750&fileType=pdf; ComponentLink3Description: Package Specification; ComponentLink3URL: http://www.ti.com/litv/pdf/mhts001g
footprint TI-PWP20-3610X2009TP_N (SOP, 20-Leads, Body 6.5x4.4mm, Pitch 0.65mm, Thermal Pad 3.605x2.005mm, IPC Medium Density)
footprint TI-PWP20-3610X2009TP_L (SOP, 20-Leads, Body 6.5x4.4mm, Pitch 0.65mm, Thermal Pad 3.605x2.005mm, IPC High Density)
footprint TI-PWP20-3610X2009TP_M (SOP, 20-Leads, Body 6.5x4.4mm, Pitch 0.65mm, Thermal Pad 3.605x2.005mm, IPC Low Density)
pins: 1 TMR (in) "Multifunction pin, serves as a converter soft start and a hiccup timer. A capacitor to RTN determines the softstart and hiccup timing.", 2 FB (in) "Converter error amplifier inverting input. Tie to RTN when not used.", 3 COMP (io) "Converter error amplifier output and PWM block input. COMP is used for loop compensation or PWM control with an external error amplifier and opto-isolator.", 4 SEN (in) "Voltage-level translator's sense input and enable; connect to RTN to disable. SEN is regulated to 1.5 V below SENP by the control loop when the translator is used. Typically used in a low-side switch buck converter.", 5 NC "No connect. There are no internal connections.", 6 SENP (in) "Voltage-level translator's positive reference voltage (sense positive) used in conjunction with SEN. Tie to the regulated voltage positive rail when the translator is used, and VDD otherwise.", 7 VDD (power) "Positive supply input.", 8 DET "PoE detection pin; a 24.9 k ohm resistor to VDD establishes a valid signature. It is pulled to VSS during detection.", 9 CLASS "Classification pin for PoE. A resistor to VSS sets the PoE device class. This pin is driven to 10 V during classification.", 10 VSS (power) "Negative supply input from the PoE feed (after required ORing bridges).", 11 RTN "The switched PoE negative output. RTN is the converter’s negative input rail. COM and RSN should be tied to RTN.", 12 RSP (in) "Connect to the converter switching MOSFET current-sense resistor (current Sense Resistor Positive end).", 13 RSN (in) "Converter switching MOSFET current-sense reference (current Sense Resistor Negative end) and quiet analog return (ground). Connect to RTN.", 14 COM (power) "Converter MOSFET gate driver circuit return. Connect to RTN.", 15 GATE (out) "Converter switching MOSFET gate drive.", 16 AUX (power) "Converter gate driver supply; outputs 10 V and can accept inputs up to 16 V. Connect a bypass capacitor to COM.", 17 MODE (in) "Connect to VBIAS to disable the error amplifier, otherwise to RTN.", 18 VBIAS (power) "Converter internal 5 V bias supply output, also used to bias external optocoupler. A bypass capacitor to RTN is required.", 19 BL (in) "Converter current sense blanking selector. Leave floating for minimum blanking, tie BL to RTN for a short period, and to VBIAS for a long period.", 20 FREQ (in) "Connect a resistor to RTN to program the switching frequency.", 21 EP (power) "Internally connected to VSS; used to heatsink the part to the circuit board traces. Must be connected to the VSS pin."